# Altium integrated library Linear Technology Power Management Switching Regulator LTC1174-LTC3901.IntLib: 2647 symbols (part 76 of 364)
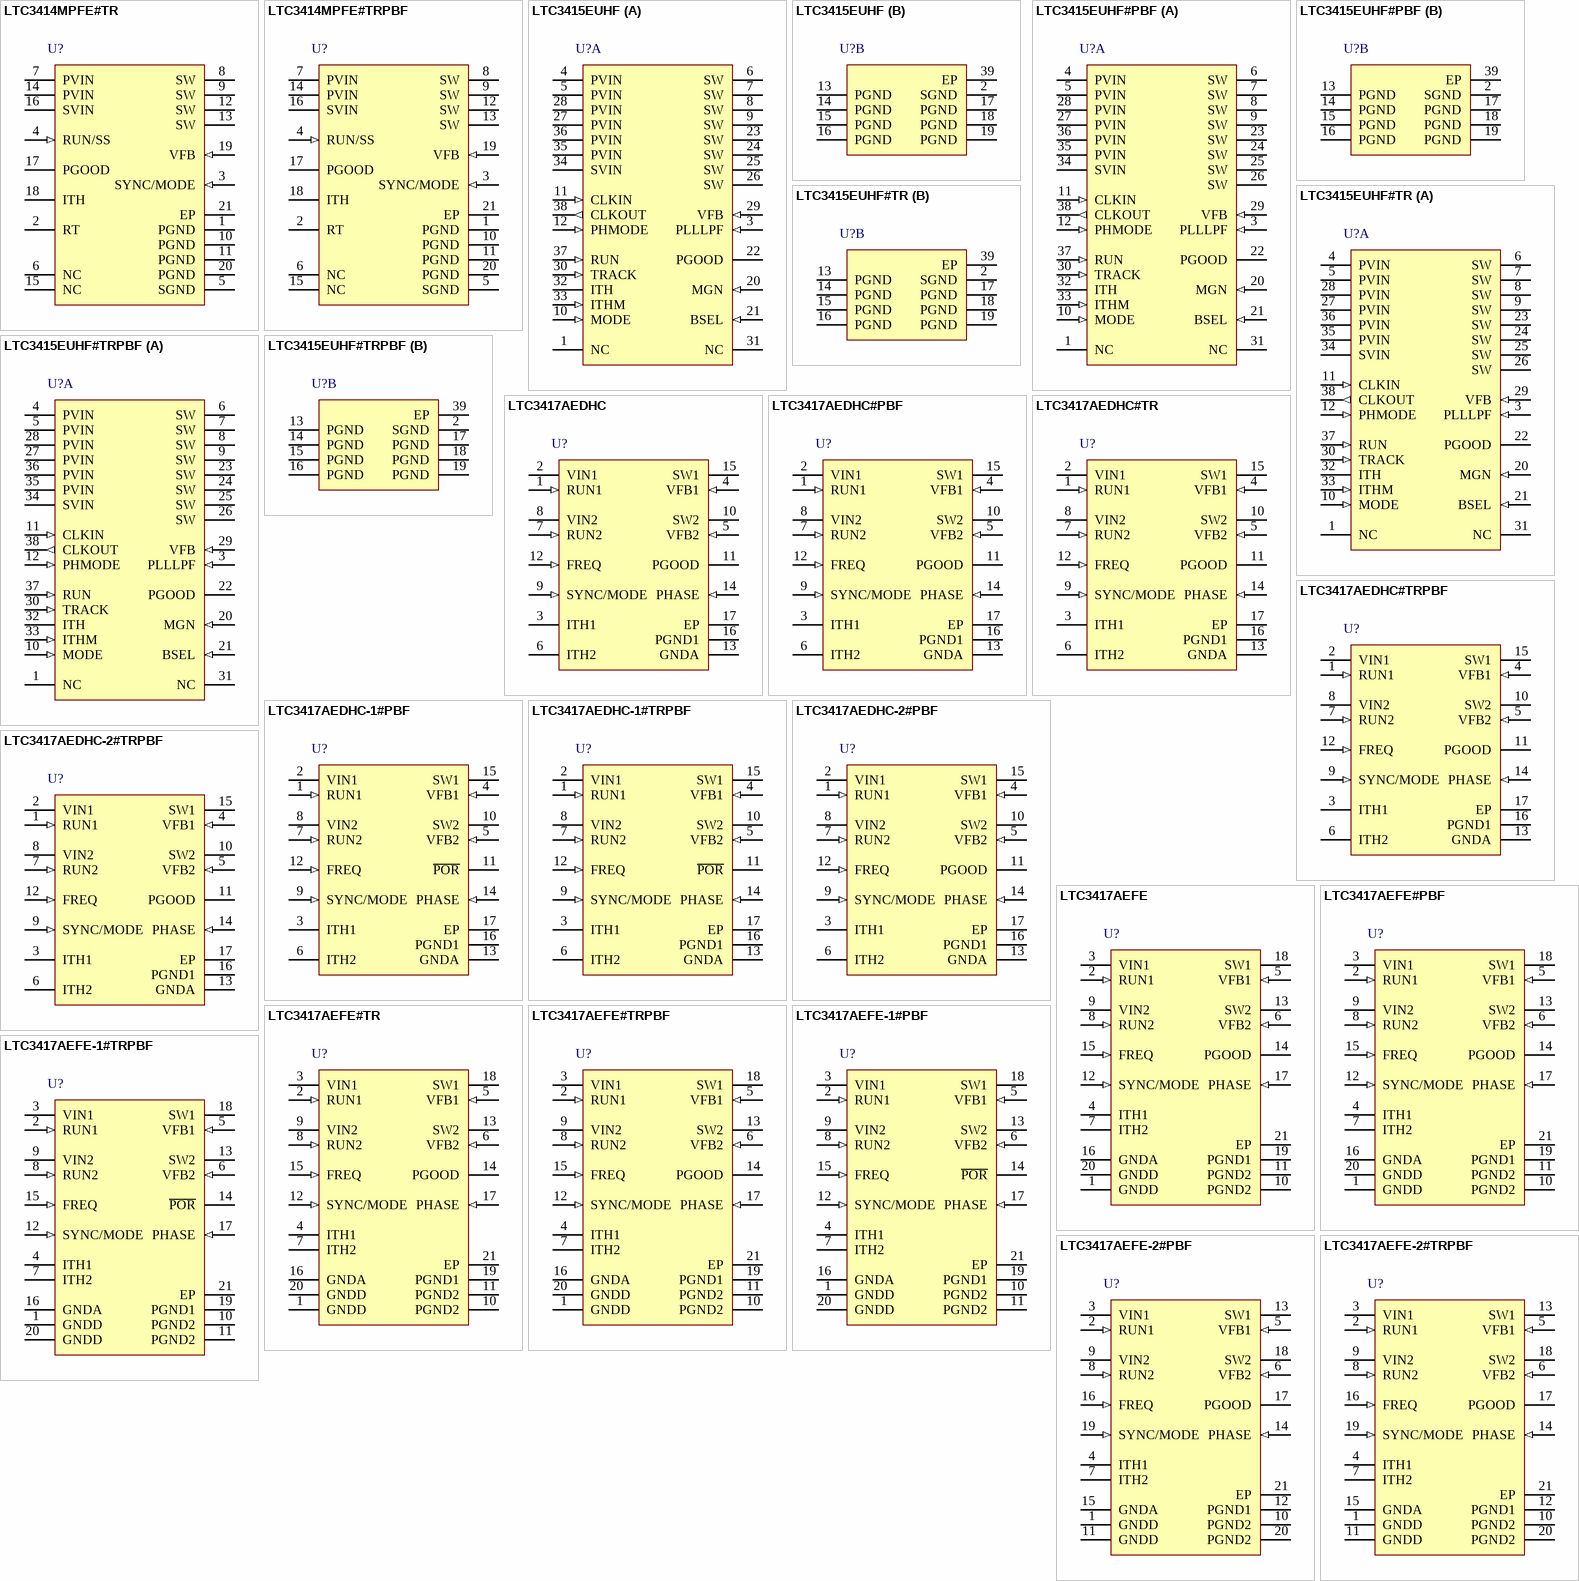
[diagram p154: symbols LTC3414MPFE#TR to LTC3417AEFE-2#TRPBF]

## LTC3417AEDHC-1#TRPBF
designator U?
Dual Synchronous 1.5 A / 1 A 4 MHz Step-Down DC/DC Regulator with POR, 16-pin SON (DHC-16), -40 to 85 degC, Pb-Free, Tape and Reel; Manufacturer: Linear Technology; PartNumber: LTC3417AEDHC-1#TRPBF; Frequency Sync Range: 600kHz - 4MHz; Number of Outputs: 2; DatasheetVersion: Rev. A; PackageVersion: Jun-10; PackageReference: DHC-16; PackageDescription: 16-Pin Plastic DFN, Body 5 x 3 mm, Pitch 0.5 mm; Supplier 1: Digi-Key; Supplier Part Number 1: LTC3417AEDHC-1#TRPBF-ND; Packing: Tape and Reel; RoHS: TRUE; Mounting Technology: Surface Mount; Code_JEDEC: MO-229; ComponentLink1Description: Manufacturer URL; ComponentLink1URL: http://www.linear.com/; ComponentLink2Description: Datasheet; ComponentLink2URL: http://cds.linear.com/docs/en/datasheet/3417a1fa.pdf; ComponentLink3Description: Package Specification; ComponentLink3URL: http://cds.linear.com/docs/en/packaging/DFN_16_05-08-1706.pdf
footprint LT-DHC-16_V (SON, 16-Leads, Body 5x3mm, Pitch 0.5mm, Thermal Pad 4.4X1.65mm)
pins: 1 RUN1 (in) "Enable for 1.5A Regulator. When at Logic 1, 1.5A regulator is running. When at 0V, 1.5A regulator is off. When both RUN1 and RUN2 are at 0V, the part is in shutdown.", 2 VIN1 (power) "Supply Pin for P-Channel Switch of 1.5A Regulator.", 3 ITH1 "Error Amplifier Compensation Point for 1.5A Regulator. The current comparator threshold increases with this control voltage. Nominal voltage range for this pin is 0V to 1.5V.", 4 VFB1 (in) "Receives the feedback voltage from external resistive divider across the 1.5A regulator output. Nominal voltage for this pin is 0.8V.", 5 VFB2 (in) "Receives the feedback voltage from external resistive divider across the 1A regulator output. Nominal voltage for this pin is 0.8V.", 6 ITH2 "Error Amplifier Compensation Point for 1A regulator. The current comparator threshold increases with this control voltage. Nominal voltage range for this pin is 0V to 1.5V.", 7 RUN2 (in) "Enable for 1A Regulator. When at Logic 1, 1A regulator is running. When at 0V, 1A regulator is off. When both RUN1 and RUN2 are at 0V, the part is in shutdown.", 8 VIN2 (power) "Supply Pin for P-Channel Switch of 1A Regulator and Supply for Analog Circuitry.", 9 SYNC/MODE (in) "Combination Mode Selection and Oscillator Synchronization Pin. This pin controls the operation of the device. When the voltage on the SYNC/MODE pin is >(VIN - 0.5V), Burst Mode operation is selected. When the voltage on the (See Datasheet)", 10 SW2 (power) "Switch Node Connection to the Inductor for the 1A Regulator. This pin swings from VIN2 to PGND2.", 11 ~{POR} (oc) "The Power-On-Reset Pin. This open drain-logic output is pulled to GND when the output voltage of either regulator falls 8% below regulation and goes high approximately 150ms after both regulators are above -6% of regulation. (See Datasheet)", 12 FREQ (in) "Frequency Set Pin. When FREQ is at VIN, internal oscillator runs at 1.5MHz. When a resistor is connected from this pin to ground, the internal oscillator frequency can be varied from 0.6MHz to 4MHz.", 13 GNDA (power) "Analog Ground Pin for Internal Analog Circuitry.", 14 PHASE (in) "Selects 1A regulator switching phase with respect to 1.5A regulator switching. Set to VIN, the 1.5A regulator and the 1A regulator are in phase. When PHASE is at 0V, the 1.5A regulator and the 1A regulator are switching 180 (See Datasheet)", 15 SW1 (power) "Switch Node Connection to the Inductor for the 1.5A Regulator. This pin swings from VIN1 to PGND1", 16 PGND1 (power) "Ground for SW1 N-Channel Driver.", 17 EP (power) "PGND2, GNDD. Ground for SW2 N-channel driver and digital ground for circuit. The Exposed Pad must be soldered to PCB ground"

## LTC3417AEDHC-2#PBF
designator U?
Dual Synchronous 1.5 A / 1 A 4 MHz Step-Down DC/DC Regulator, 16-pin SON (DHC-16), -40 to 85 degC, Pb-Free; Manufacturer: Linear Technology; PartNumber: LTC3417AEDHC-2#PBF; Frequency Sync Range: 600kHz - 4MHz; Number of Outputs: 2; DatasheetVersion: Rev. A; PackageVersion: Jun-10; PackageReference: DHC-16; PackageDescription: 16-Pin Plastic DFN, Body 5 x 3 mm, Pitch 0.5 mm; Supplier 1: Digi-Key; Supplier Part Number 1: LTC3417AEDHC-2#PBF-ND; Supplier 2: Farnell; Supplier Part Number 2: 2295053; Supplier 3: Newark; Supplier Part Number 3: 95M6494; RoHS: TRUE; Mounting Technology: Surface Mount; Code_JEDEC: MO-229; ComponentLink1Description: Manufacturer URL; ComponentLink1URL: http://www.linear.com/; ComponentLink2Description: Datasheet; ComponentLink2URL: http://cds.linear.com/docs/en/datasheet/3417a2fa.pdf; ComponentLink3Description: Package Specification; ComponentLink3URL: http://cds.linear.com/docs/en/packaging/DFN_16_05-08-1706.pdf
footprint LT-DHC-16_V (SON, 16-Leads, Body 5x3mm, Pitch 0.5mm, Thermal Pad 4.4X1.65mm)
pins: 1 RUN1 (in) "Enable for 1.5A Regulator. When at Logic 1, 1.5A regulator is running. When at 0V, 1.5A regulator is off. When both RUN1 and RUN2 are at 0V, the part is in shutdown.", 2 VIN1 (power) "Supply Pin for P-Channel Switch of 1.5A Regulator.", 3 ITH1 "Error Amplifier Compensation Point for 1.5A Regulator. The current comparator threshold increases with this control voltage. Nominal voltage range for this pin is 0V to 1.5V.", 4 VFB1 (in) "Receives the feedback voltage from external resistive divider across the 1.5A regulator output. Nominal voltage for this pin is 0.8V.", 5 VFB2 (in) "Receives the feedback voltage from external resistive divider across the 1A regulator output. Nominal voltage for this pin is 0.8V.", 6 ITH2 "Error Amplifier Compensation Point for 1A regulator. The current comparator threshold increases with this control voltage. Nominal voltage range for this pin is 0V to 1.5V.", 7 RUN2 (in) "Enable for 1A Regulator. When at Logic 1, 1A regulator is running. When at 0V, 1A regulator is off. When both RUN1 and RUN2 are at 0V, the part is in shutdown.", 8 VIN2 (power) "Supply Pin for P-Channel Switch of 1A Regulator and Supply for Analog Circuitry.", 9 SYNC/MODE (in) "Combination Mode Selection and Oscillator Synchronization Pin. This pin controls the operation of the device. When the voltage on the SYNC/MODE pin is >(VIN- 0.5V), Burst Mode operation is selected. When the voltage on the (See Datasheet)", 10 SW2 (power) "Switch Node Connection to the Inductor for the 1A Regulator. This pin swings from VIN2 to PGND2.", 11 PGOOD (oc) "Power Good Pin. This common drain-logic output is pulled to GND when the output voltage of either regulator is -6% below regulation. If either RUN1 or RUN2 is low (the respective regulator is in sleep mode and therefore the (See Datasheet)", 12 FREQ (in) "Frequency Set Pin. When FREQ is at VIN, internal oscillator runs at 1.5MHz. When a resistor is connected from this pin to ground, the internal oscillator frequency can be varied from 0.6MHz to 4MHz.", 13 GNDA (power) "Analog Ground Pin for Internal Analog Circuitry.", 14 PHASE (in) "Selects 1A regulator switching phase with respect to 1.5A regulator switching. Set to VIN, the 1.5A regulator and the 1A regulator are in phase. When PHASE is at 0V, the 1.5A regulator and the 1A regulator are switching 180 (See Datasheet)", 15 SW1 (power) "Switch Node Connection to the Inductor for the 1.5A Regulator. This pin swings from VIN1 to PGND1.", 16 PGND1 (power) "Ground for SW1 N-Channel Driver.", 17 EP (power) "Ground for SW2 N-channel driver and digital ground for circuit. The Exposed Pad must be soldered to PCB ground."

## LTC3417AEDHC-2#TRPBF
designator U?
Dual Synchronous 1.5 A / 1 A 4 MHz Step-Down DC/DC Regulator, 16-pin SON (DHC-16), -40 to 85 degC, Pb-Free, Tape and Reel; Manufacturer: Linear Technology; PartNumber: LTC3417AEDHC-2#TRPBF; Frequency Sync Range: 600kHz - 4MHz; Number of Outputs: 2; DatasheetVersion: Rev. A; PackageVersion: Jun-10; PackageReference: DHC-16; PackageDescription: 16-Pin Plastic DFN, Body 5 x 3 mm, Pitch 0.5 mm; Supplier 1: Digi-Key; Supplier Part Number 1: LTC3417AEDHC-2#TRPBF-ND; Supplier 2: Newark; Supplier Part Number 2: 95M6495; Packing: Tape and Reel; RoHS: TRUE; Mounting Technology: Surface Mount; Code_JEDEC: MO-229; ComponentLink1Description: Manufacturer URL; ComponentLink1URL: http://www.linear.com/; ComponentLink2Description: Datasheet; ComponentLink2URL: http://cds.linear.com/docs/en/datasheet/3417a2fa.pdf; ComponentLink3Description: Package Specification; ComponentLink3URL: http://cds.linear.com/docs/en/packaging/DFN_16_05-08-1706.pdf
footprint LT-DHC-16_V (SON, 16-Leads, Body 5x3mm, Pitch 0.5mm, Thermal Pad 4.4X1.65mm)
pins: 1 RUN1 (in) "Enable for 1.5A Regulator. When at Logic 1, 1.5A regulator is running. When at 0V, 1.5A regulator is off. When both RUN1 and RUN2 are at 0V, the part is in shutdown.", 2 VIN1 (power) "Supply Pin for P-Channel Switch of 1.5A Regulator.", 3 ITH1 "Error Amplifier Compensation Point for 1.5A Regulator. The current comparator threshold increases with this control voltage. Nominal voltage range for this pin is 0V to 1.5V.", 4 VFB1 (in) "Receives the feedback voltage from external resistive divider across the 1.5A regulator output. Nominal voltage for this pin is 0.8V.", 5 VFB2 (in) "Receives the feedback voltage from external resistive divider across the 1A regulator output. Nominal voltage for this pin is 0.8V.", 6 ITH2 "Error Amplifier Compensation Point for 1A regulator. The current comparator threshold increases with this control voltage. Nominal voltage range for this pin is 0V to 1.5V.", 7 RUN2 (in) "Enable for 1A Regulator. When at Logic 1, 1A regulator is running. When at 0V, 1A regulator is off. When both RUN1 and RUN2 are at 0V, the part is in shutdown.", 8 VIN2 (power) "Supply Pin for P-Channel Switch of 1A Regulator and Supply for Analog Circuitry.", 9 SYNC/MODE (in) "Combination Mode Selection and Oscillator Synchronization Pin. This pin controls the operation of the device. When the voltage on the SYNC/MODE pin is >(VIN- 0.5V), Burst Mode operation is selected. When the voltage on the (See Datasheet)", 10 SW2 (power) "Switch Node Connection to the Inductor for the 1A Regulator. This pin swings from VIN2 to PGND2.", 11 PGOOD (oc) "Power Good Pin. This common drain-logic output is pulled to GND when the output voltage of either regulator is -6% below regulation. If either RUN1 or RUN2 is low (the respective regulator is in sleep mode and therefore the (See Datasheet)", 12 FREQ (in) "Frequency Set Pin. When FREQ is at VIN, internal oscillator runs at 1.5MHz. When a resistor is connected from this pin to ground, the internal oscillator frequency can be varied from 0.6MHz to 4MHz.", 13 GNDA (power) "Analog Ground Pin for Internal Analog Circuitry.", 14 PHASE (in) "Selects 1A regulator switching phase with respect to 1.5A regulator switching. Set to VIN, the 1.5A regulator and the 1A regulator are in phase. When PHASE is at 0V, the 1.5A regulator and the 1A regulator are switching 180 (See Datasheet)", 15 SW1 (power) "Switch Node Connection to the Inductor for the 1.5A Regulator. This pin swings from VIN1 to PGND1.", 16 PGND1 (power) "Ground for SW1 N-Channel Driver.", 17 EP (power) "Ground for SW2 N-channel driver and digital ground for circuit. The Exposed Pad must be soldered to PCB ground."

## LTC3417AEFE
designator U?
Dual Synchronous 1.5 A / 1 A 4 MHz Step-Down DC/DC Regulator, 20-pin SOP (FE-20-EPV-CA), -40 to 85 degC; Manufacturer: Linear Technology; PartNumber: LTC3417AEFE; Number of Outputs: 2; DatasheetVersion: Rev. C; PackageVersion: Rev. I, 05/2011; PackageReference: FE-20; PackageDescription: 20-Pin Plastic TSSOP, Body 6.5 x 4.4 mm, Pitch 0.65 mm; RoHS: FALSE; Mounting Technology: Surface Mount; ComponentLink1Description: Manufacturer URL; ComponentLink1URL: http://www.linear.com/; ComponentLink2Description: Datasheet; ComponentLink2URL: http://cds.linear.com/docs/en/datasheet/3417afc.pdf; ComponentLink3Description: Package Specification; ComponentLink3URL: http://cds.linear.com/docs/en/packaging/05081663__JFE20(CA).pdf
footprint LT-FE-20-EPV-CA_N (SOP, 20-Leads, Body 6.6x4.5mm, Pitch 0.65mm, Thermal Pad 4.95x2.74mm, IPC Medium Density)
footprint LT-FE-20-EPV-CA_L (SOP, 20-Leads, Body 6.6x4.5mm, Pitch 0.65mm, Thermal Pad 4.95x2.74mm, IPC High Density)
footprint LT-FE-20-EPV-CA_M (SOP, 20-Leads, Body 6.6x4.5mm, Pitch 0.65mm, Thermal Pad 4.95x2.74mm, IPC Low Density)
pins: 1 GNDD (power) "TSSOP Package Only. Ground for SW2 N-channel driver and digital ground for circuit.", 2 RUN1 (in) "Enable for 1.5A Regulator. When at Logic 1, 1.5A regulator is running. When at 0V, 1.5A regulator is off. When both RUN1 and RUN2 are at 0V, the part is in shutdown.", 3 VIN1 (power) "Supply Pin for P-Channel Switch of 1.5A Regulator.", 4 ITH1 "Error Amplifier Compensation Point for 1.5A Regulator. The current comparator threshold increases with this control voltage. Nominal voltage range for this pin is 0V to 1.5V.", 5 VFB1 (in) "Receives the feedback voltage from external resistive divider across the 1.5A regulator output. Nominal voltage for this pin is 0.8V", 6 VFB2 (in) "Receives the feedback voltage from external resistive divider across the 1A regulator output. Nominal voltage for this pin is 0.8V.", 7 ITH2 "Error Amplifier Compensation Point for 1A regulator. The current comparator threshold increases with this control voltage. Nominal voltage range for this pin is 0V to 1.5V.", 8 RUN2 (in) "Enable for 1A Regulator. When at Logic 1, 1A regulator is running. When at 0V, 1A regulator is off. When both RUN1 and RUN2 are at 0V, the part is in shutdown", 9 VIN2 (power) "Supply Pin for P-Channel Switch of 1A Regulator and Supply for Analog Circuitry.", 10 PGND2 (power) "TSSOP Package Only. Ground for SW2 N-channel driver and digital ground for circuit.", 11 PGND2 (power) "TSSOP Package Only. Ground for SW2 N-channel driver and digital ground for circuit.", 12 SYNC/MODE (in) "Combination Mode Selection and Oscillator Synchronization Pin. This pin controls the operation of the device. When the voltage on the SYNC/MODE pin is >(VIN - 0.5V), Burst Mode operation is selected. When the voltage on the (See Datasheet)", 13 SW2 (power) "Switch Node Connection to the Inductor for the 1A Regulator. This pin swings from VIN2 to PGND2.", 14 PGOOD (oc) "Power Good Pin. This common drain-logic output is pulled to GND when the output voltage of either regulator is - 6% of regulation. If either RUN1 or RUN2 is low (the respective regulator is in sleep mode and therefore the (See Datasheet)", 15 FREQ (in) "Frequency Set Pin. When FREQ is at VIN, internal oscillator runs at 1.5MHz. When a resistor is connected from this pin to ground, the internal oscillator frequency can be varied from 0.6MHz to 4MHz.", 16 GNDA (power) "Analog Ground Pin for Internal Analog Circuitry.", 17 PHASE (in) "Selects 1A regulator switching phase with respect to 1.5A regulator switching. Set to VIN, the 1.5A regulator and the 1A regulator are in phase. When PHASE is at 0V, the 1.5A regulator and the 1A regulator are switching 180 (See Datasheet)", 18 SW1 (power) "Switch Node Connection to the Inductor for the 1.5A Regulator. This pin swings from VIN1 to PGND1.", 19 PGND1 (power) "Ground for SW1 N-Channel Driver.", 20 GNDD (power) "TSSOP Package Only. Ground for SW2 N-channel driver and digital ground for circuit.", 21 EP (power) "PGND2, GNDD. Ground for SW2 N-channel driver and digital ground for circuit. The Exposed Pad must be soldered to PCB ground."

## LTC3417AEFE#PBF
designator U?
Dual Synchronous 1.5 A / 1 A 4 MHz Step-Down DC/DC Regulator, 20-pin SOP (FE-20-EPV-CA), -40 to 85 degC, Pb-Free; Manufacturer: Linear Technology; PartNumber: LTC3417AEFE#PBF; Number of Outputs: 2; DatasheetVersion: Rev. C; PackageVersion: Rev. I, 05/2011; PackageReference: FE-20; PackageDescription: 20-Pin Plastic TSSOP, Body 6.5 x 4.4 mm, Pitch 0.65 mm; Supplier 1: Digi-Key; Supplier Part Number 1: LTC3417AEFE#PBF-ND; Supplier 2: Farnell; Supplier Part Number 2: 2295054; Supplier 3: Newark; Supplier Part Number 3: 56M7729; RoHS: TRUE; Mounting Technology: Surface Mount; ComponentLink1Description: Manufacturer URL; ComponentLink1URL: http://www.linear.com/; ComponentLink2Description: Datasheet; ComponentLink2URL: http://cds.linear.com/docs/en/datasheet/3417afc.pdf; ComponentLink3Description: Package Specification; ComponentLink3URL: http://cds.linear.com/docs/en/packaging/05081663__JFE20(CA).pdf
footprint LT-FE-20-EPV-CA_N (SOP, 20-Leads, Body 6.6x4.5mm, Pitch 0.65mm, Thermal Pad 4.95x2.74mm, IPC Medium Density)
footprint LT-FE-20-EPV-CA_L (SOP, 20-Leads, Body 6.6x4.5mm, Pitch 0.65mm, Thermal Pad 4.95x2.74mm, IPC High Density)
footprint LT-FE-20-EPV-CA_M (SOP, 20-Leads, Body 6.6x4.5mm, Pitch 0.65mm, Thermal Pad 4.95x2.74mm, IPC Low Density)
pins: 1 GNDD (power) "TSSOP Package Only. Ground for SW2 N-channel driver and digital ground for circuit.", 2 RUN1 (in) "Enable for 1.5A Regulator. When at Logic 1, 1.5A regulator is running. When at 0V, 1.5A regulator is off. When both RUN1 and RUN2 are at 0V, the part is in shutdown.", 3 VIN1 (power) "Supply Pin for P-Channel Switch of 1.5A Regulator.", 4 ITH1 "Error Amplifier Compensation Point for 1.5A Regulator. The current comparator threshold increases with this control voltage. Nominal voltage range for this pin is 0V to 1.5V.", 5 VFB1 (in) "Receives the feedback voltage from external resistive divider across the 1.5A regulator output. Nominal voltage for this pin is 0.8V", 6 VFB2 (in) "Receives the feedback voltage from external resistive divider across the 1A regulator output. Nominal voltage for this pin is 0.8V.", 7 ITH2 "Error Amplifier Compensation Point for 1A regulator. The current comparator threshold increases with this control voltage. Nominal voltage range for this pin is 0V to 1.5V.", 8 RUN2 (in) "Enable for 1A Regulator. When at Logic 1, 1A regulator is running. When at 0V, 1A regulator is off. When both RUN1 and RUN2 are at 0V, the part is in shutdown", 9 VIN2 (power) "Supply Pin for P-Channel Switch of 1A Regulator and Supply for Analog Circuitry.", 10 PGND2 (power) "TSSOP Package Only. Ground for SW2 N-channel driver and digital ground for circuit.", 11 PGND2 (power) "TSSOP Package Only. Ground for SW2 N-channel driver and digital ground for circuit.", 12 SYNC/MODE (in) "Combination Mode Selection and Oscillator Synchronization Pin. This pin controls the operation of the device. When the voltage on the SYNC/MODE pin is >(VIN - 0.5V), Burst Mode operation is selected. When the voltage on the (See Datasheet)", 13 SW2 (power) "Switch Node Connection to the Inductor for the 1A Regulator. This pin swings from VIN2 to PGND2.", 14 PGOOD (oc) "Power Good Pin. This common drain-logic output is pulled to GND when the output voltage of either regulator is - 6% of regulation. If either RUN1 or RUN2 is low (the respective regulator is in sleep mode and therefore the (See Datasheet)", 15 FREQ (in) "Frequency Set Pin. When FREQ is at VIN, internal oscillator runs at 1.5MHz. When a resistor is connected from this pin to ground, the internal oscillator frequency can be varied from 0.6MHz to 4MHz.", 16 GNDA (power) "Analog Ground Pin for Internal Analog Circuitry.", 17 PHASE (in) "Selects 1A regulator switching phase with respect to 1.5A regulator switching. Set to VIN, the 1.5A regulator and the 1A regulator are in phase. When PHASE is at 0V, the 1.5A regulator and the 1A regulator are switching 180 (See Datasheet)", 18 SW1 (power) "Switch Node Connection to the Inductor for the 1.5A Regulator. This pin swings from VIN1 to PGND1.", 19 PGND1 (power) "Ground for SW1 N-Channel Driver.", 20 GNDD (power) "TSSOP Package Only. Ground for SW2 N-channel driver and digital ground for circuit.", 21 EP (power) "PGND2, GNDD. Ground for SW2 N-channel driver and digital ground for circuit. The Exposed Pad must be soldered to PCB ground."

## LTC3417AEFE#TR
designator U?
Dual Synchronous 1.5 A / 1 A 4 MHz Step-Down DC/DC Regulator, 20-pin SOP (FE-20-EPV-CA), -40 to 85 degC, Tape and Reel; Manufacturer: Linear Technology; PartNumber: LTC3417AEFE#TR; Number of Outputs: 2; DatasheetVersion: Rev. C; PackageVersion: Rev. I, 05/2011; PackageReference: FE-20; PackageDescription: 20-Pin Plastic TSSOP, Body 6.5 x 4.4 mm, Pitch 0.65 mm; Packing: Tape and Reel; RoHS: FALSE; Mounting Technology: Surface Mount; ComponentLink1Description: Manufacturer URL; ComponentLink1URL: http://www.linear.com/; ComponentLink2Description: Datasheet; ComponentLink2URL: http://cds.linear.com/docs/en/datasheet/3417afc.pdf; ComponentLink3Description: Package Specification; ComponentLink3URL: http://cds.linear.com/docs/en/packaging/05081663__JFE20(CA).pdf
footprint LT-FE-20-EPV-CA_N (SOP, 20-Leads, Body 6.6x4.5mm, Pitch 0.65mm, Thermal Pad 4.95x2.74mm, IPC Medium Density)
footprint LT-FE-20-EPV-CA_L (SOP, 20-Leads, Body 6.6x4.5mm, Pitch 0.65mm, Thermal Pad 4.95x2.74mm, IPC High Density)
footprint LT-FE-20-EPV-CA_M (SOP, 20-Leads, Body 6.6x4.5mm, Pitch 0.65mm, Thermal Pad 4.95x2.74mm, IPC Low Density)
pins: 1 GNDD (power) "TSSOP Package Only. Ground for SW2 N-channel driver and digital ground for circuit.", 2 RUN1 (in) "Enable for 1.5A Regulator. When at Logic 1, 1.5A regulator is running. When at 0V, 1.5A regulator is off. When both RUN1 and RUN2 are at 0V, the part is in shutdown.", 3 VIN1 (power) "Supply Pin for P-Channel Switch of 1.5A Regulator.", 4 ITH1 "Error Amplifier Compensation Point for 1.5A Regulator. The current comparator threshold increases with this control voltage. Nominal voltage range for this pin is 0V to 1.5V.", 5 VFB1 (in) "Receives the feedback voltage from external resistive divider across the 1.5A regulator output. Nominal voltage for this pin is 0.8V", 6 VFB2 (in) "Receives the feedback voltage from external resistive divider across the 1A regulator output. Nominal voltage for this pin is 0.8V.", 7 ITH2 "Error Amplifier Compensation Point for 1A regulator. The current comparator threshold increases with this control voltage. Nominal voltage range for this pin is 0V to 1.5V.", 8 RUN2 (in) "Enable for 1A Regulator. When at Logic 1, 1A regulator is running. When at 0V, 1A regulator is off. When both RUN1 and RUN2 are at 0V, the part is in shutdown", 9 VIN2 (power) "Supply Pin for P-Channel Switch of 1A Regulator and Supply for Analog Circuitry.", 10 PGND2 (power) "TSSOP Package Only. Ground for SW2 N-channel driver and digital ground for circuit.", 11 PGND2 (power) "TSSOP Package Only. Ground for SW2 N-channel driver and digital ground for circuit.", 12 SYNC/MODE (in) "Combination Mode Selection and Oscillator Synchronization Pin. This pin controls the operation of the device. When the voltage on the SYNC/MODE pin is >(VIN - 0.5V), Burst Mode operation is selected. When the voltage on the (See Datasheet)", 13 SW2 (power) "Switch Node Connection to the Inductor for the 1A Regulator. This pin swings from VIN2 to PGND2.", 14 PGOOD (oc) "Power Good Pin. This common drain-logic output is pulled to GND when the output voltage of either regulator is - 6% of regulation. If either RUN1 or RUN2 is low (the respective regulator is in sleep mode and therefore the (See Datasheet)", 15 FREQ (in) "Frequency Set Pin. When FREQ is at VIN, internal oscillator runs at 1.5MHz. When a resistor is connected from this pin to ground, the internal oscillator frequency can be varied from 0.6MHz to 4MHz.", 16 GNDA (power) "Analog Ground Pin for Internal Analog Circuitry.", 17 PHASE (in) "Selects 1A regulator switching phase with respect to 1.5A regulator switching. Set to VIN, the 1.5A regulator and the 1A regulator are in phase. When PHASE is at 0V, the 1.5A regulator and the 1A regulator are switching 180 (See Datasheet)", 18 SW1 (power) "Switch Node Connection to the Inductor for the 1.5A Regulator. This pin swings from VIN1 to PGND1.", 19 PGND1 (power) "Ground for SW1 N-Channel Driver.", 20 GNDD (power) "TSSOP Package Only. Ground for SW2 N-channel driver and digital ground for circuit.", 21 EP (power) "PGND2, GNDD. Ground for SW2 N-channel driver and digital ground for circuit. The Exposed Pad must be soldered to PCB ground."

## LTC3417AEFE#TRPBF
designator U?
Dual Synchronous 1.5 A / 1 A 4 MHz Step-Down DC/DC Regulator, 20-pin SOP (FE-20-EPV-CA), -40 to 85 degC, Pb-Free, Tape and Reel; Manufacturer: Linear Technology; PartNumber: LTC3417AEFE#TRPBF; Number of Outputs: 2; DatasheetVersion: Rev. C; PackageVersion: Rev. I, 05/2011; PackageReference: FE-20; PackageDescription: 20-Pin Plastic TSSOP, Body 6.5 x 4.4 mm, Pitch 0.65 mm; Supplier 1: Digi-Key; Supplier Part Number 1: LTC3417AEFE#TRPBF-ND; Packing: Tape and Reel; RoHS: TRUE; Mounting Technology: Surface Mount; ComponentLink1Description: Manufacturer URL; ComponentLink1URL: http://www.linear.com/; ComponentLink2Description: Datasheet; ComponentLink2URL: http://cds.linear.com/docs/en/datasheet/3417afc.pdf; ComponentLink3Description: Package Specification; ComponentLink3URL: http://cds.linear.com/docs/en/packaging/05081663__JFE20(CA).pdf
footprint LT-FE-20-EPV-CA_N (SOP, 20-Leads, Body 6.6x4.5mm, Pitch 0.65mm, Thermal Pad 4.95x2.74mm, IPC Medium Density)
footprint LT-FE-20-EPV-CA_L (SOP, 20-Leads, Body 6.6x4.5mm, Pitch 0.65mm, Thermal Pad 4.95x2.74mm, IPC High Density)
footprint LT-FE-20-EPV-CA_M (SOP, 20-Leads, Body 6.6x4.5mm, Pitch 0.65mm, Thermal Pad 4.95x2.74mm, IPC Low Density)
pins: 1 GNDD (power) "TSSOP Package Only. Ground for SW2 N-channel driver and digital ground for circuit.", 2 RUN1 (in) "Enable for 1.5A Regulator. When at Logic 1, 1.5A regulator is running. When at 0V, 1.5A regulator is off. When both RUN1 and RUN2 are at 0V, the part is in shutdown.", 3 VIN1 (power) "Supply Pin for P-Channel Switch of 1.5A Regulator.", 4 ITH1 "Error Amplifier Compensation Point for 1.5A Regulator. The current comparator threshold increases with this control voltage. Nominal voltage range for this pin is 0V to 1.5V.", 5 VFB1 (in) "Receives the feedback voltage from external resistive divider across the 1.5A regulator output. Nominal voltage for this pin is 0.8V", 6 VFB2 (in) "Receives the feedback voltage from external resistive divider across the 1A regulator output. Nominal voltage for this pin is 0.8V.", 7 ITH2 "Error Amplifier Compensation Point for 1A regulator. The current comparator threshold increases with this control voltage. Nominal voltage range for this pin is 0V to 1.5V.", 8 RUN2 (in) "Enable for 1A Regulator. When at Logic 1, 1A regulator is running. When at 0V, 1A regulator is off. When both RUN1 and RUN2 are at 0V, the part is in shutdown", 9 VIN2 (power) "Supply Pin for P-Channel Switch of 1A Regulator and Supply for Analog Circuitry.", 10 PGND2 (power) "TSSOP Package Only. Ground for SW2 N-channel driver and digital ground for circuit.", 11 PGND2 (power) "TSSOP Package Only. Ground for SW2 N-channel driver and digital ground for circuit.", 12 SYNC/MODE (in) "Combination Mode Selection and Oscillator Synchronization Pin. This pin controls the operation of the device. When the voltage on the SYNC/MODE pin is >(VIN - 0.5V), Burst Mode operation is selected. When the voltage on the (See Datasheet)", 13 SW2 (power) "Switch Node Connection to the Inductor for the 1A Regulator. This pin swings from VIN2 to PGND2.", 14 PGOOD (oc) "Power Good Pin. This common drain-logic output is pulled to GND when the output voltage of either regulator is - 6% of regulation. If either RUN1 or RUN2 is low (the respective regulator is in sleep mode and therefore the (See Datasheet)", 15 FREQ (in) "Frequency Set Pin. When FREQ is at VIN, internal oscillator runs at 1.5MHz. When a resistor is connected from this pin to ground, the internal oscillator frequency can be varied from 0.6MHz to 4MHz.", 16 GNDA (power) "Analog Ground Pin for Internal Analog Circuitry.", 17 PHASE (in) "Selects 1A regulator switching phase with respect to 1.5A regulator switching. Set to VIN, the 1.5A regulator and the 1A regulator are in phase. When PHASE is at 0V, the 1.5A regulator and the 1A regulator are switching 180 (See Datasheet)", 18 SW1 (power) "Switch Node Connection to the Inductor for the 1.5A Regulator. This pin swings from VIN1 to PGND1.", 19 PGND1 (power) "Ground for SW1 N-Channel Driver.", 20 GNDD (power) "TSSOP Package Only. Ground for SW2 N-channel driver and digital ground for circuit.", 21 EP (power) "PGND2, GNDD. Ground for SW2 N-channel driver and digital ground for circuit. The Exposed Pad must be soldered to PCB ground."

## LTC3417AEFE-1#PBF
designator U?
Dual Synchronous 1.5 A / 1 A 4 MHz Step-Down DC/DC Regulator with POR, 20-pin SOP (FE-20-EPV-CA), -40 to 85 degC, Pb-Free; Manufacturer: Linear Technology; PartNumber: LTC3417AEFE-1#PBF; Frequency Sync Range: 600kHz - 4MHz; Number of Outputs: 2; DatasheetVersion: Rev. A; PackageVersion: Rev. I, 05/2011; PackageReference: FE-20; PackageDescription: 20-Pin Plastic TSSOP, Body 6.5 x 4.4 mm, Pitch 0.65 mm; Supplier 1: Digi-Key; Supplier Part Number 1: LTC3417AEFE-1#PBF-ND; RoHS: TRUE; Mounting Technology: Surface Mount; ComponentLink1Description: Manufacturer URL; ComponentLink1URL: http://www.linear.com/; ComponentLink2Description: Datasheet; ComponentLink2URL: http://cds.linear.com/docs/en/datasheet/3417a1fa.pdf; ComponentLink3Description: Package Specification; ComponentLink3URL: http://cds.linear.com/docs/en/packaging/05081663__JFE20(CA).pdf
footprint LT-FE-20-EPV-CA_N (SOP, 20-Leads, Body 6.6x4.5mm, Pitch 0.65mm, Thermal Pad 4.95x2.74mm, IPC Medium Density)
footprint LT-FE-20-EPV-CA_L (SOP, 20-Leads, Body 6.6x4.5mm, Pitch 0.65mm, Thermal Pad 4.95x2.74mm, IPC High Density)
footprint LT-FE-20-EPV-CA_M (SOP, 20-Leads, Body 6.6x4.5mm, Pitch 0.65mm, Thermal Pad 4.95x2.74mm, IPC Low Density)
pins: 1 GNDD (power) "TSSOP Package Only. Ground for SW2 N-channel driver and digital ground for circuit.", 2 RUN1 (in) "Enable for 1.5A Regulator. When at Logic 1, 1.5A regulator is running. When at 0V, 1.5A regulator is off. When both RUN1 and RUN2 are at 0V, the part is in shutdown.", 3 VIN1 (power) "Supply Pin for P-Channel Switch of 1.5A Regulator.", 4 ITH1 "Error Amplifier Compensation Point for 1.5A Regulator. The current comparator threshold increases with this control voltage. Nominal voltage range for this pin is 0V to 1.5V.", 5 VFB1 (in) "Receives the feedback voltage from external resistive divider across the 1.5A regulator output. Nominal voltage for this pin is 0.8V.", 6 VFB2 (in) "Receives the feedback voltage from external resistive divider across the 1A regulator output. Nominal voltage for this pin is 0.8V.", 7 ITH2 "Error Amplifier Compensation Point for 1A regulator. The current comparator threshold increases with this control voltage. Nominal voltage range for this pin is 0V to 1.5V.", 8 RUN2 (in) "Enable for 1A Regulator. When at Logic 1, 1A regulator is running. When at 0V, 1A regulator is off. When both RUN1 and RUN2 are at 0V, the part is in shutdown.", 9 VIN2 (power) "Supply Pin for P-Channel Switch of 1A Regulator and Supply for Analog Circuitry.", 10 PGND2 (power) "TSSOP Package Only. Ground for SW2 N-channel driver and digital ground for circuit.", 11 PGND2 (power) "TSSOP Package Only. Ground for SW2 N-channel driver and digital ground for circuit.", 12 SYNC/MODE (in) "Combination Mode Selection and Oscillator Synchronization Pin. This pin controls the operation of the device. When the voltage on the SYNC/MODE pin is >(VIN - 0.5V), Burst Mode operation is selected. When the voltage on the (See Datasheet)", 13 SW2 (power) "Switch Node Connection to the Inductor for the 1A Regulator. This pin swings from VIN2 to PGND2.", 14 ~{POR} (oc) "The Power-On-Reset Pin. This open drain-logic output is pulled to GND when the output voltage of either regulator falls 8% below regulation and goes high approximately 150ms after both regulators are above -6% of regulation. (See Datasheet)", 15 FREQ (in) "Frequency Set Pin. When FREQ is at VIN, internal oscillator runs at 1.5MHz. When a resistor is connected from this pin to ground, the internal oscillator frequency can be varied from 0.6MHz to 4MHz.", 16 GNDA (power) "Analog Ground Pin for Internal Analog Circuitry.", 17 PHASE (in) "Selects 1A regulator switching phase with respect to 1.5A regulator switching. Set to VIN, the 1.5A regulator and the 1A regulator are in phase. When PHASE is at 0V, the 1.5A regulator and the 1A regulator are switching 180 (See Datasheet)", 18 SW1 (power) "Switch Node Connection to the Inductor for the 1.5A Regulator. This pin swings from VIN1 to PGND1", 19 PGND1 (power) "Ground for SW1 N-Channel Driver.", 20 GNDD (power) "TSSOP Package Only. Ground for SW2 N-channel driver and digital ground for circuit.", 21 EP (power) "PGND2, GNDD. Ground for SW2 N-channel driver and digital ground for circuit. The Exposed Pad must be soldered to PCB ground"

## LTC3417AEFE-1#TRPBF
designator U?
Dual Synchronous 1.5 A / 1 A 4 MHz Step-Down DC/DC Regulator with POR, 20-pin SOP (FE-20-EPV-CA), -40 to 85 degC, Pb-Free, Tape and Reel; Manufacturer: Linear Technology; PartNumber: LTC3417AEFE-1#TRPBF; Frequency Sync Range: 600kHz - 4MHz; Number of Outputs: 2; DatasheetVersion: Rev. A; PackageVersion: Rev. I, 05/2011; PackageReference: FE-20; PackageDescription: 20-Pin Plastic TSSOP, Body 6.5 x 4.4 mm, Pitch 0.65 mm; Supplier 1: Digi-Key; Supplier Part Number 1: LTC3417AEFE-1#TRPBF-ND; Packing: Tape and Reel; RoHS: TRUE; Mounting Technology: Surface Mount; ComponentLink1Description: Manufacturer URL; ComponentLink1URL: http://www.linear.com/; ComponentLink2Description: Datasheet; ComponentLink2URL: http://cds.linear.com/docs/en/datasheet/3417a1fa.pdf; ComponentLink3Description: Package Specification; ComponentLink3URL: http://cds.linear.com/docs/en/packaging/05081663__JFE20(CA).pdf
footprint LT-FE-20-EPV-CA_N (SOP, 20-Leads, Body 6.6x4.5mm, Pitch 0.65mm, Thermal Pad 4.95x2.74mm, IPC Medium Density)
footprint LT-FE-20-EPV-CA_L (SOP, 20-Leads, Body 6.6x4.5mm, Pitch 0.65mm, Thermal Pad 4.95x2.74mm, IPC High Density)
footprint LT-FE-20-EPV-CA_M (SOP, 20-Leads, Body 6.6x4.5mm, Pitch 0.65mm, Thermal Pad 4.95x2.74mm, IPC Low Density)
pins: 1 GNDD (power) "TSSOP Package Only. Ground for SW2 N-channel driver and digital ground for circuit.", 2 RUN1 (in) "Enable for 1.5A Regulator. When at Logic 1, 1.5A regulator is running. When at 0V, 1.5A regulator is off. When both RUN1 and RUN2 are at 0V, the part is in shutdown.", 3 VIN1 (power) "Supply Pin for P-Channel Switch of 1.5A Regulator.", 4 ITH1 "Error Amplifier Compensation Point for 1.5A Regulator. The current comparator threshold increases with this control voltage. Nominal voltage range for this pin is 0V to 1.5V.", 5 VFB1 (in) "Receives the feedback voltage from external resistive divider across the 1.5A regulator output. Nominal voltage for this pin is 0.8V.", 6 VFB2 (in) "Receives the feedback voltage from external resistive divider across the 1A regulator output. Nominal voltage for this pin is 0.8V.", 7 ITH2 "Error Amplifier Compensation Point for 1A regulator. The current comparator threshold increases with this control voltage. Nominal voltage range for this pin is 0V to 1.5V.", 8 RUN2 (in) "Enable for 1A Regulator. When at Logic 1, 1A regulator is running. When at 0V, 1A regulator is off. When both RUN1 and RUN2 are at 0V, the part is in shutdown.", 9 VIN2 (power) "Supply Pin for P-Channel Switch of 1A Regulator and Supply for Analog Circuitry.", 10 PGND2 (power) "TSSOP Package Only. Ground for SW2 N-channel driver and digital ground for circuit.", 11 PGND2 (power) "TSSOP Package Only. Ground for SW2 N-channel driver and digital ground for circuit.", 12 SYNC/MODE (in) "Combination Mode Selection and Oscillator Synchronization Pin. This pin controls the operation of the device. When the voltage on the SYNC/MODE pin is >(VIN - 0.5V), Burst Mode operation is selected. When the voltage on the (See Datasheet)", 13 SW2 (power) "Switch Node Connection to the Inductor for the 1A Regulator. This pin swings from VIN2 to PGND2.", 14 ~{POR} (oc) "The Power-On-Reset Pin. This open drain-logic output is pulled to GND when the output voltage of either regulator falls 8% below regulation and goes high approximately 150ms after both regulators are above -6% of regulation. (See Datasheet)", 15 FREQ (in) "Frequency Set Pin. When FREQ is at VIN, internal oscillator runs at 1.5MHz. When a resistor is connected from this pin to ground, the internal oscillator frequency can be varied from 0.6MHz to 4MHz.", 16 GNDA (power) "Analog Ground Pin for Internal Analog Circuitry.", 17 PHASE (in) "Selects 1A regulator switching phase with respect to 1.5A regulator switching. Set to VIN, the 1.5A regulator and the 1A regulator are in phase. When PHASE is at 0V, the 1.5A regulator and the 1A regulator are switching 180 (See Datasheet)", 18 SW1 (power) "Switch Node Connection to the Inductor for the 1.5A Regulator. This pin swings from VIN1 to PGND1", 19 PGND1 (power) "Ground for SW1 N-Channel Driver.", 20 GNDD (power) "TSSOP Package Only. Ground for SW2 N-channel driver and digital ground for circuit.", 21 EP (power) "PGND2, GNDD. Ground for SW2 N-channel driver and digital ground for circuit. The Exposed Pad must be soldered to PCB ground"

## LTC3417AEFE-2#PBF
designator U?
Dual Synchronous 1.5 A / 1 A 4 MHz Step-Down DC/DC Regulator, 20-pin SOP (FE-20-EPV-CA), -40 to 85 degC, Pb-Free; Manufacturer: Linear Technology; PartNumber: LTC3417AEFE-2#PBF; Frequency Sync Range: 600kHz - 4MHz; Number of Outputs: 2; DatasheetVersion: Rev. A; PackageVersion: Rev. I, 05/2011; PackageReference: FE-20; PackageDescription: 20-Pin Plastic TSSOP, Body 6.5 x 4.4 mm, Pitch 0.65 mm; Supplier 1: Digi-Key; Supplier Part Number 1: LTC3417AEFE-2#PBF-ND; Supplier 2: Newark; Supplier Part Number 2: 95M6496; RoHS: TRUE; Mounting Technology: Surface Mount; ComponentLink1Description: Manufacturer URL; ComponentLink1URL: http://www.linear.com/; ComponentLink2Description: Datasheet; ComponentLink2URL: http://cds.linear.com/docs/en/datasheet/3417a2fa.pdf; ComponentLink3Description: Package Specification; ComponentLink3URL: http://cds.linear.com/docs/en/packaging/05081663__JFE20(CA).pdf
footprint LT-FE-20-EPV-CA_N (SOP, 20-Leads, Body 6.6x4.5mm, Pitch 0.65mm, Thermal Pad 4.95x2.74mm, IPC Medium Density)
footprint LT-FE-20-EPV-CA_L (SOP, 20-Leads, Body 6.6x4.5mm, Pitch 0.65mm, Thermal Pad 4.95x2.74mm, IPC High Density)
footprint LT-FE-20-EPV-CA_M (SOP, 20-Leads, Body 6.6x4.5mm, Pitch 0.65mm, Thermal Pad 4.95x2.74mm, IPC Low Density)
pins: 1 GNDD (power) "TSSOP Package Only. Ground for SW2 N-channel driver and digital ground for circuit.", 2 RUN1 (in) "Enable for 1.5A Regulator. When at Logic 1, 1.5A regulator is running. When at 0V, 1.5A regulator is off. When both RUN1 and RUN2 are at 0V, the part is in shutdown.", 3 VIN1 (power) "Supply Pin for P-Channel Switch of 1.5A Regulator.", 4 ITH1 "Error Amplifier Compensation Point for 1.5A Regulator. The current comparator threshold increases with this control voltage. Nominal voltage range for this pin is 0V to 1.5V.", 5 VFB1 (in) "Receives the feedback voltage from external resistive divider across the 1.5A regulator output. Nominal voltage for this pin is 0.8V.", 6 VFB2 (in) "Receives the feedback voltage from external resistive divider across the 1A regulator output. Nominal voltage for this pin is 0.8V.", 7 ITH2 "Error Amplifier Compensation Point for 1A regulator. The current comparator threshold increases with this control voltage. Nominal voltage range for this pin is 0V to 1.5V.", 8 RUN2 (in) "Enable for 1A Regulator. When at Logic 1, 1A regulator is running. When at 0V, 1A regulator is off. When both RUN1 and RUN2 are at 0V, the part is in shutdown", 9 VIN2 (power) "Supply Pin for P-Channel Switch of 1A Regulator and Supply for Analog Circuitry", 10 PGND2 (power) "TSSOP Package Only. Ground for SW2 N-channel driver and digital ground for circuit.", 11 GNDD (power) "TSSOP Package Only. Ground for SW2 N-channel driver and digital ground for circuit.", 12 PGND1 (power) "Ground for SW1 N-Channel Driver.", 13 SW1 (power) "Switch Node Connection to the Inductor for the 1.5A Regulator. This pin swings from VIN1 to PGND1.", 14 PHASE (in) "Selects 1A regulator switching phase with respect to 1.5A regulator switching. Set to VIN, the 1.5A regulator and the 1A regulator are in phase. When PHASE is at 0V, the 1.5A regulator and the 1A regulator are switching 180 (See Datasheet)", 15 GNDA (power) "Analog Ground Pin for Internal Analog Circuitry.", 16 FREQ (in) "Frequency Set Pin. When FREQ is at VIN, internal oscillator runs at 1.5MHz. When a resistor is connected from this pin to ground, the internal oscillator frequency can be varied from 0.6MHz to 4MHz.", 17 PGOOD (oc) "Power Good Pin. This common drain-logic output is pulled to GND when the output voltage of either regulator is -6% below regulation. If either RUN1 or RUN2 is low (the respective regulator is in sleep mode and therefore the (See Datasheet)", 18 SW2 (power) "Switch Node Connection to the Inductor for the 1A Regulator. This pin swings from VIN2 to PGND2.", 19 SYNC/MODE (in) "Combination Mode Selection and Oscillator Synchronization Pin. This pin controls the operation of the device. When the voltage on the SYNC/MODE pin is >(VIN - 0.5V), Burst Mode operation is selected. When the voltage on the (See Datasheet)", 20 PGND2 (power) "TSSOP Package Only. Ground for SW2 N-channel driver and digital ground for circuit.", 21 EP (power) "PGND2, GNDD. Ground for SW2 N-channel driver and digital ground for circuit. The Exposed Pad must be soldered to PCB ground."

## LTC3417AEFE-2#TRPBF
designator U?
Dual Synchronous 1.5 A / 1 A 4 MHz Step-Down DC/DC Regulator, 20-pin SOP (FE-20-EPV-CA), -40 to 85 degC, Pb-Free, Tape and Reel; Manufacturer: Linear Technology; PartNumber: LTC3417AEFE-2#TRPBF; Frequency Sync Range: 600kHz - 4MHz; Number of Outputs: 2; DatasheetVersion: Rev. A; PackageVersion: Rev. I, 05/2011; PackageReference: FE-20; PackageDescription: 20-Pin Plastic TSSOP, Body 6.5 x 4.4 mm, Pitch 0.65 mm; Supplier 1: Digi-Key; Supplier Part Number 1: LTC3417AEFE-2#TRPBF-ND; Packing: Tape and Reel; RoHS: TRUE; Mounting Technology: Surface Mount; ComponentLink1Description: Manufacturer URL; ComponentLink1URL: http://www.linear.com/; ComponentLink2Description: Datasheet; ComponentLink2URL: http://cds.linear.com/docs/en/datasheet/3417a2fa.pdf; ComponentLink3Description: Package Specification; ComponentLink3URL: http://cds.linear.com/docs/en/packaging/05081663__JFE20(CA).pdf
footprint LT-FE-20-EPV-CA_N (SOP, 20-Leads, Body 6.6x4.5mm, Pitch 0.65mm, Thermal Pad 4.95x2.74mm, IPC Medium Density)
footprint LT-FE-20-EPV-CA_L (SOP, 20-Leads, Body 6.6x4.5mm, Pitch 0.65mm, Thermal Pad 4.95x2.74mm, IPC High Density)
footprint LT-FE-20-EPV-CA_M (SOP, 20-Leads, Body 6.6x4.5mm, Pitch 0.65mm, Thermal Pad 4.95x2.74mm, IPC Low Density)
pins: 1 GNDD (power) "TSSOP Package Only. Ground for SW2 N-channel driver and digital ground for circuit.", 2 RUN1 (in) "Enable for 1.5A Regulator. When at Logic 1, 1.5A regulator is running. When at 0V, 1.5A regulator is off. When both RUN1 and RUN2 are at 0V, the part is in shutdown.", 3 VIN1 (power) "Supply Pin for P-Channel Switch of 1.5A Regulator.", 4 ITH1 "Error Amplifier Compensation Point for 1.5A Regulator. The current comparator threshold increases with this control voltage. Nominal voltage range for this pin is 0V to 1.5V.", 5 VFB1 (in) "Receives the feedback voltage from external resistive divider across the 1.5A regulator output. Nominal voltage for this pin is 0.8V.", 6 VFB2 (in) "Receives the feedback voltage from external resistive divider across the 1A regulator output. Nominal voltage for this pin is 0.8V.", 7 ITH2 "Error Amplifier Compensation Point for 1A regulator. The current comparator threshold increases with this control voltage. Nominal voltage range for this pin is 0V to 1.5V.", 8 RUN2 (in) "Enable for 1A Regulator. When at Logic 1, 1A regulator is running. When at 0V, 1A regulator is off. When both RUN1 and RUN2 are at 0V, the part is in shutdown", 9 VIN2 (power) "Supply Pin for P-Channel Switch of 1A Regulator and Supply for Analog Circuitry", 10 PGND2 (power) "TSSOP Package Only. Ground for SW2 N-channel driver and digital ground for circuit.", 11 GNDD (power) "TSSOP Package Only. Ground for SW2 N-channel driver and digital ground for circuit.", 12 PGND1 (power) "Ground for SW1 N-Channel Driver.", 13 SW1 (power) "Switch Node Connection to the Inductor for the 1.5A Regulator. This pin swings from VIN1 to PGND1.", 14 PHASE (in) "Selects 1A regulator switching phase with respect to 1.5A regulator switching. Set to VIN, the 1.5A regulator and the 1A regulator are in phase. When PHASE is at 0V, the 1.5A regulator and the 1A regulator are switching 180 (See Datasheet)", 15 GNDA (power) "Analog Ground Pin for Internal Analog Circuitry.", 16 FREQ (in) "Frequency Set Pin. When FREQ is at VIN, internal oscillator runs at 1.5MHz. When a resistor is connected from this pin to ground, the internal oscillator frequency can be varied from 0.6MHz to 4MHz.", 17 PGOOD (oc) "Power Good Pin. This common drain-logic output is pulled to GND when the output voltage of either regulator is -6% below regulation. If either RUN1 or RUN2 is low (the respective regulator is in sleep mode and therefore the (See Datasheet)", 18 SW2 (power) "Switch Node Connection to the Inductor for the 1A Regulator. This pin swings from VIN2 to PGND2.", 19 SYNC/MODE (in) "Combination Mode Selection and Oscillator Synchronization Pin. This pin controls the operation of the device. When the voltage on the SYNC/MODE pin is >(VIN - 0.5V), Burst Mode operation is selected. When the voltage on the (See Datasheet)", 20 PGND2 (power) "TSSOP Package Only. Ground for SW2 N-channel driver and digital ground for circuit.", 21 EP (power) "PGND2, GNDD. Ground for SW2 N-channel driver and digital ground for circuit. The Exposed Pad must be soldered to PCB ground."

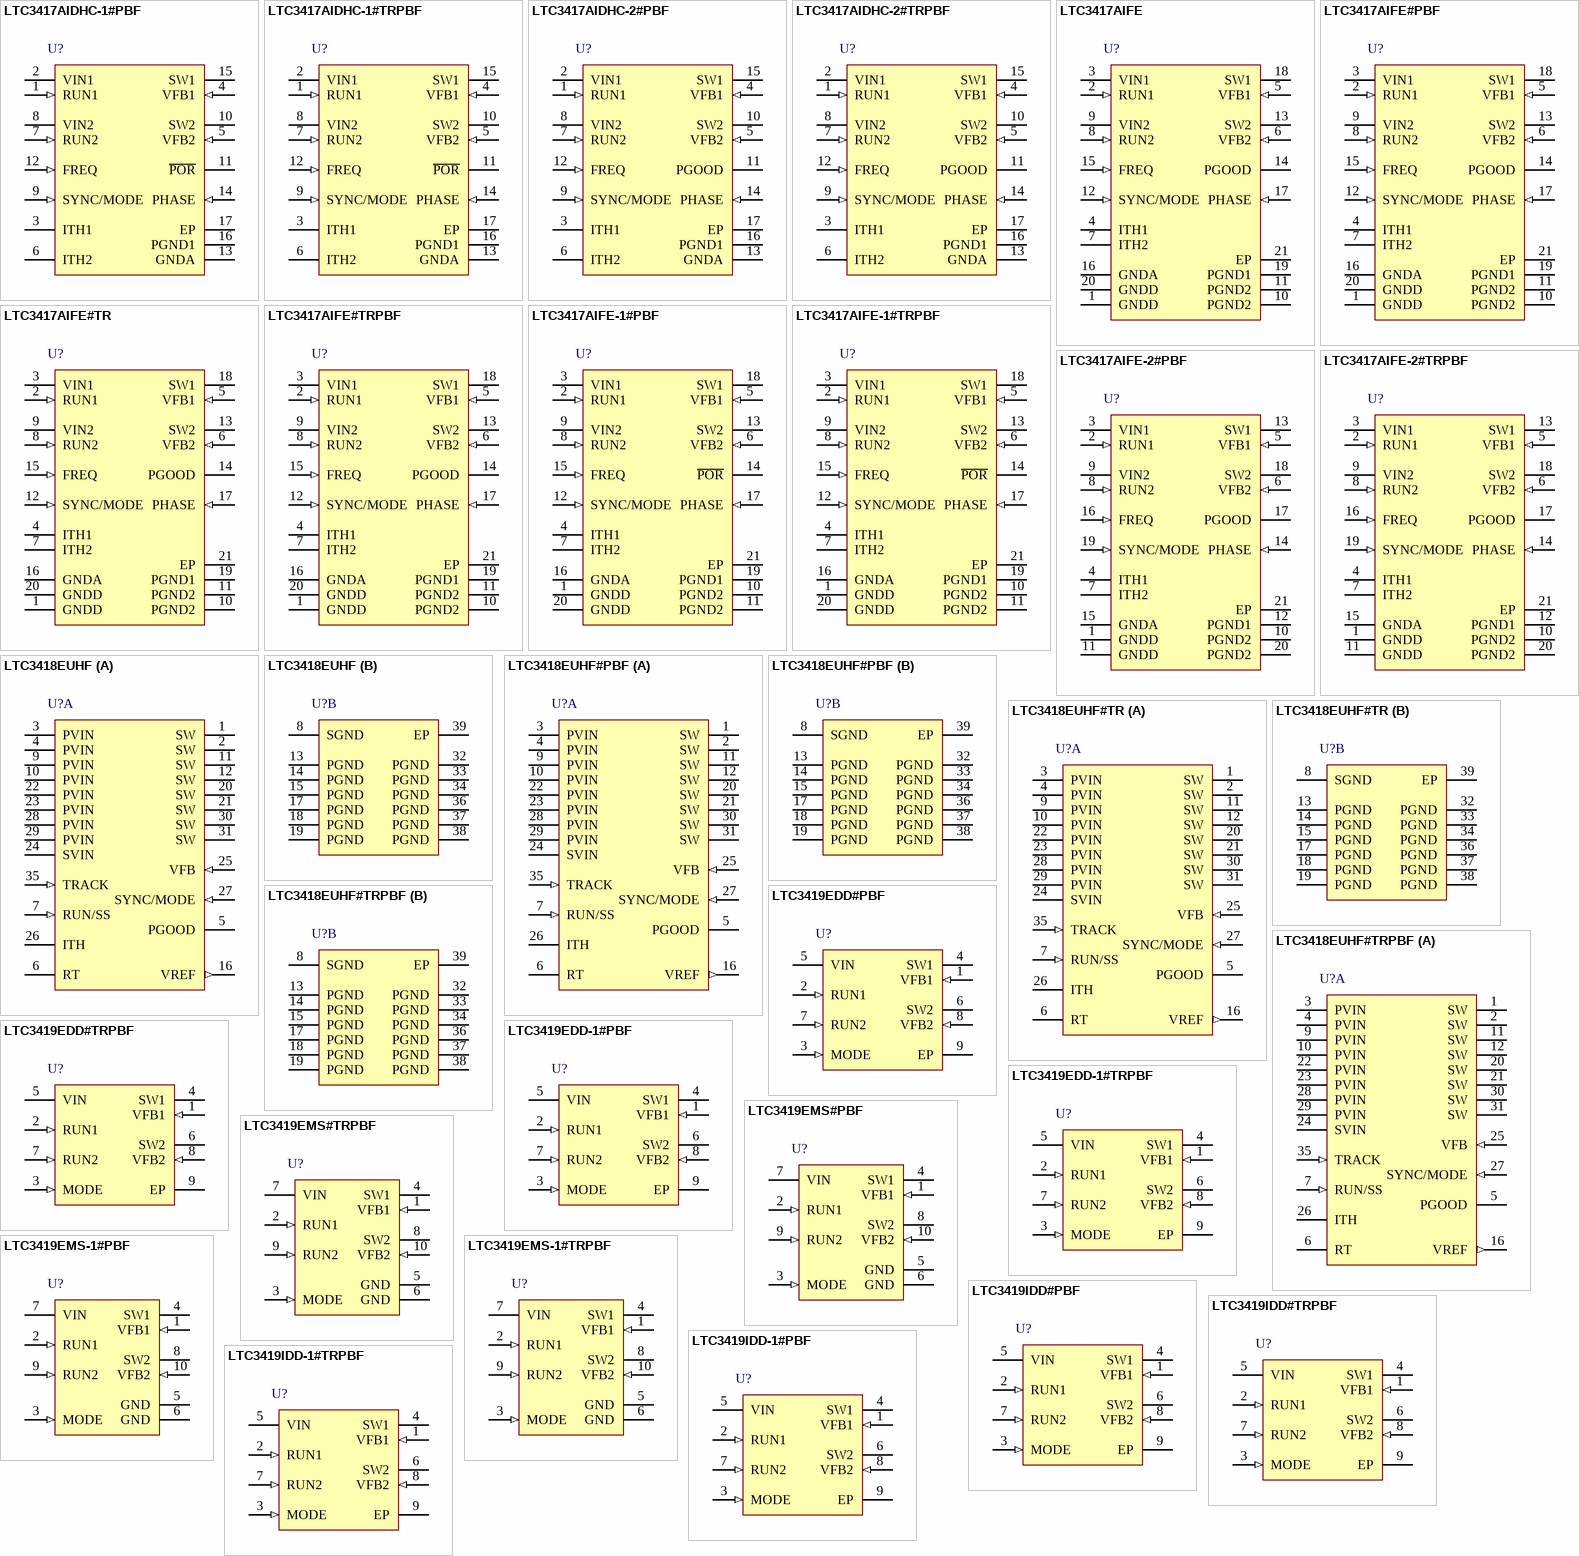
[diagram p24: symbols LTC3417AIDHC-1#PBF to LTC3419IDD-1#TRPBF]

## LTC3417AIDHC-1#PBF
designator U?
Dual Synchronous 1.5 A / 1 A 4 MHz Step-Down DC/DC Regulator with POR, 16-pin SON (DHC-16), -40 to 125 degC, Pb-Free; Manufacturer: Linear Technology; PartNumber: LTC3417AIDHC-1#PBF; Frequency Sync Range: 600kHz - 4MHz; Number of Outputs: 2; DatasheetVersion: Rev. A; PackageVersion: Jun-10; PackageReference: DHC-16; PackageDescription: 16-Pin Plastic DFN, Body 5 x 3 mm, Pitch 0.5 mm; Supplier 1: Digi-Key; Supplier Part Number 1: LTC3417AIDHC-1#PBF-ND; RoHS: TRUE; Mounting Technology: Surface Mount; Code_JEDEC: MO-229; ComponentLink1Description: Manufacturer URL; ComponentLink1URL: http://www.linear.com/; ComponentLink2Description: Datasheet; ComponentLink2URL: http://cds.linear.com/docs/en/datasheet/3417a1fa.pdf; ComponentLink3Description: Package Specification; ComponentLink3URL: http://cds.linear.com/docs/en/packaging/DFN_16_05-08-1706.pdf
footprint LT-DHC-16_V (SON, 16-Leads, Body 5x3mm, Pitch 0.5mm, Thermal Pad 4.4X1.65mm)
pins: 1 RUN1 (in) "Enable for 1.5A Regulator. When at Logic 1, 1.5A regulator is running. When at 0V, 1.5A regulator is off. When both RUN1 and RUN2 are at 0V, the part is in shutdown.", 2 VIN1 (power) "Supply Pin for P-Channel Switch of 1.5A Regulator.", 3 ITH1 "Error Amplifier Compensation Point for 1.5A Regulator. The current comparator threshold increases with this control voltage. Nominal voltage range for this pin is 0V to 1.5V.", 4 VFB1 (in) "Receives the feedback voltage from external resistive divider across the 1.5A regulator output. Nominal voltage for this pin is 0.8V.", 5 VFB2 (in) "Receives the feedback voltage from external resistive divider across the 1A regulator output. Nominal voltage for this pin is 0.8V.", 6 ITH2 "Error Amplifier Compensation Point for 1A regulator. The current comparator threshold increases with this control voltage. Nominal voltage range for this pin is 0V to 1.5V.", 7 RUN2 (in) "Enable for 1A Regulator. When at Logic 1, 1A regulator is running. When at 0V, 1A regulator is off. When both RUN1 and RUN2 are at 0V, the part is in shutdown.", 8 VIN2 (power) "Supply Pin for P-Channel Switch of 1A Regulator and Supply for Analog Circuitry.", 9 SYNC/MODE (in) "Combination Mode Selection and Oscillator Synchronization Pin. This pin controls the operation of the device. When the voltage on the SYNC/MODE pin is >(VIN - 0.5V), Burst Mode operation is selected. When the voltage on the (See Datasheet)", 10 SW2 (power) "Switch Node Connection to the Inductor for the 1A Regulator. This pin swings from VIN2 to PGND2.", 11 ~{POR} (oc) "The Power-On-Reset Pin. This open drain-logic output is pulled to GND when the output voltage of either regulator falls 8% below regulation and goes high approximately 150ms after both regulators are above -6% of regulation. (See Datasheet)", 12 FREQ (in) "Frequency Set Pin. When FREQ is at VIN, internal oscillator runs at 1.5MHz. When a resistor is connected from this pin to ground, the internal oscillator frequency can be varied from 0.6MHz to 4MHz.", 13 GNDA (power) "Analog Ground Pin for Internal Analog Circuitry.", 14 PHASE (in) "Selects 1A regulator switching phase with respect to 1.5A regulator switching. Set to VIN, the 1.5A regulator and the 1A regulator are in phase. When PHASE is at 0V, the 1.5A regulator and the 1A regulator are switching 180 (See Datasheet)", 15 SW1 (power) "Switch Node Connection to the Inductor for the 1.5A Regulator. This pin swings from VIN1 to PGND1", 16 PGND1 (power) "Ground for SW1 N-Channel Driver.", 17 EP (power) "PGND2, GNDD. Ground for SW2 N-channel driver and digital ground for circuit. The Exposed Pad must be soldered to PCB ground"